# EAGLE library part L293 (library FansElectronics-IC-L29x)
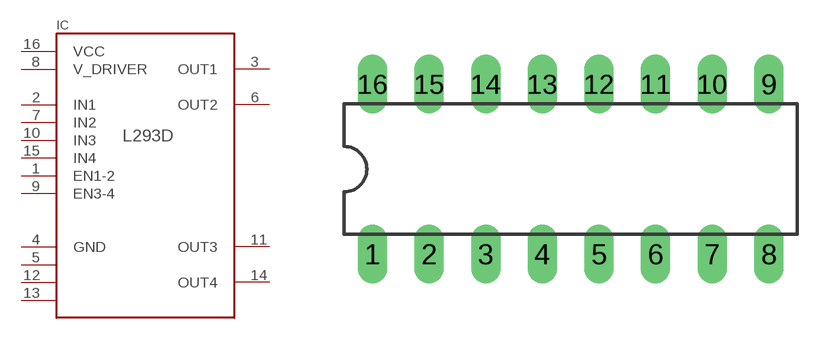
[diagram p0: symbol with the pads of DIL16; footprint DIL16]

Designator prefix IC

## L293  [DIL16]
1  EN1-2
2  IN1
3  OUT1
4  GND
5
6  OUT2
7  IN2
8  V_DRIVER
9  EN3-4
10  IN3
11  OUT3
12
13
14  OUT4
15  IN4
16  VCC

## Footprint DIL16 (pad centres in mm)
drill 0.813 long: 1 -8.89,-3.81; 2 -6.35,-3.81; 3 -3.81,-3.81; 4 -1.27,-3.81; 5 1.27,-3.81; 6 3.81,-3.81; 7 6.35,-3.81; 8 8.89,-3.81; 9 8.89,3.81; 10 6.35,3.81; 11 3.81,3.81; 12 1.27,3.81; 13 -1.27,3.81; 14 -3.81,3.81; 15 -6.35,3.81; 16 -8.89,3.81